# Altium schematic symbol library Passives.SchLib: 279 symbols (part 9 of 10)
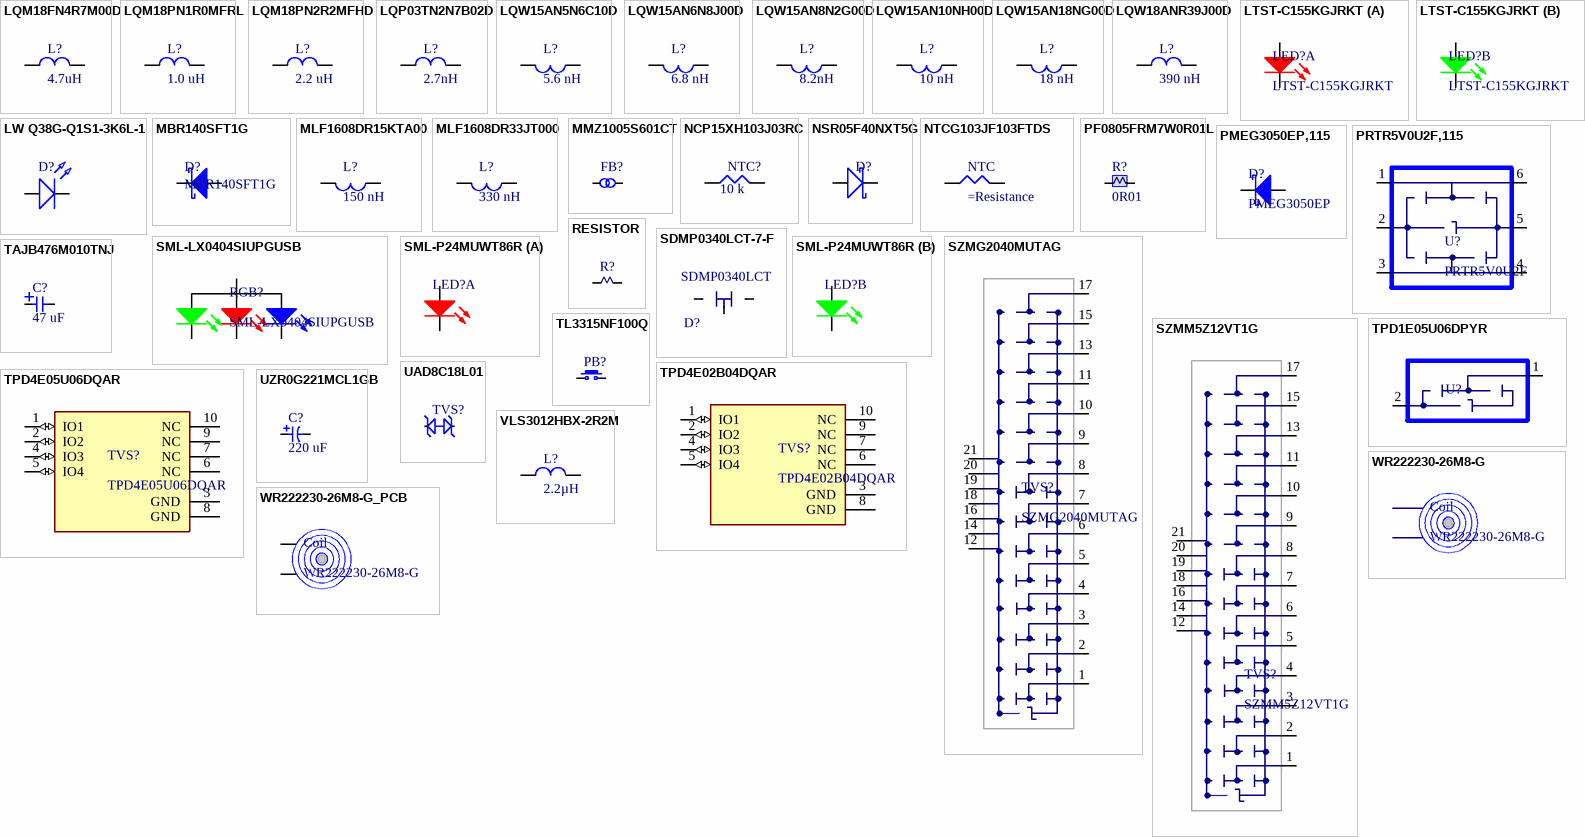
[diagram p15: symbols LQM18FN4R7M00D to WR222230-26M8-G_PCB]

## LQP03TN2N7B02D
designator L?, comment 2.7nH
Inductor RF Chip Thin Film 2.7nH 0.1nH 500MHz 14Q-Factor 500mA 200mOhm DCR 0201 Paper T/R; Manufacturer: Murata; Manufacturer Part Number: LQP03TN2N7B02D; Core Material: Non-Magnetic; Self Resonant Frequency: 6GHz; DC Resistance (DCR): 200mR; Shielding: Unshielded; Q Factor: 14; Tolerance: 3%; Current: 350mA; Supplier: Mouser; Supplier Part Number: 81-LQP03TN2N7B02D; RoHS: Yes; Category: Fixed Inductors; Stock: 28505; Pricing: 1=0.1, 10=0.029, 50=0.029, 100=0.024, 1000=0.02, 10000=0.016 (USD); Mounting Technology: Surface Mount; Case/Package: 0201; Case Code (Metric): 0603; Case Code (Imperial): 0201; Min Operating Temperature: -55°C; Max Operating Temperature: 125°C; Value: 2.7nH; Packaging: Tape and Reel; Current Rating: 500mA; Test Frequency: 500MHz; Series: LQP03TN_02; Package Quantity: 1; Max DC Current: 500mA; Termination: SMD/SMT; DC Current: 500mA; Technology: THIN FILM; RMS Current (Irms): 500mA; ESR: 200mR; Length: 0.024inch; Width: 0.012inch; Height: 0.3mm; Depth: 0.33mm; Height - Seated (Max): 0.013inch; RoHS Compliant: Yes; Military Standard: Not; Reach SVHC Compliant: No; ComponentLink1URL: http://components.arrow.com/part/dataview/49670632S8721729N2606?src-supplier=Arrow+Electronics; ComponentLink1Description: http://components.arrow.com/part/dataview/49670632S8721729N2606?src-supplier=Arrow+Electronics; ComponentLink2URL: http://www.farnell.com/datasheets/1888743.pdf?src-supplier=Farnell; ComponentLink2Description: http://www.farnell.com/datasheets/1888743.pdf?src-supplier=Farnell; ComponentLink3URL: http://www.mouser.com/ds/2/281/c51e-794816.pdf?src-supplier=Mouser; ComponentLink3Description: http://www.mouser.com/ds/2/281/c51e-794816.pdf?src-supplier=Mouser; ComponentLink4URL: https://media.digikey.com/pdf/Data%20Sheets/Murata%20PDFs/LQP03_Series_Br.pdf?src-supplier=Digikey; ComponentLink4Description: https://media.digikey.com/pdf/Data%20Sheets/Murata%20PDFs/LQP03_Series_Br.pdf?src-supplier=Digikey; ComponentLink5URL: https://datasheet.octopart.com/LQP03TN2N7B02D-Murata-datasheet-26765549.pdf?src-supplier=Future+Electronics; ComponentLink5Description: https://datasheet.octopart.com/LQP03TN2N7B02D-Murata-datasheet-26765549.pdf?src-supplier=Future+Electronics; ComponentLink6URL: http://psearch.en.murata.com/inductor/product/LQP03TN2N7B02%23.pdf?src-supplier=Avnet; ComponentLink6Description: http://psearch.en.murata.com/inductor/product/LQP03TN2N7B02%23.pdf?src-supplier=Avnet; ComponentLink7URL: http://search.murata.co.jp/Ceramy/image/img/w_hinm/S0084E.pdf?src-supplier=Digikey; ComponentLink7Description: http://search.murata.co.jp/Ceramy/image/img/w_hinm/S0084E.pdf?src-supplier=Digikey; ComponentLink8URL: http://www.farnell.com/datasheets/1888743.pdf?src-supplier=Newark; ComponentLink8Description: http://www.farnell.com/datasheets/1888743.pdf?src-supplier=Newark; ComponentLink9URL: http://www.farnell.com/datasheets/1888743.pdf?src-supplier=Element14; ComponentLink9Description: http://www.farnell.com/datasheets/1888743.pdf?src-supplier=Element14; ComponentLink10URL: https://datasheet.octopart.com/LQP03TN2N7B02D-Murata-datasheet-141404629.pdf?src-supplier=TME; ComponentLink10Description: https://datasheet.octopart.com/LQP03TN2N7B02D-Murata-datasheet-141404629.pdf?src-supplier=TME; ComponentLink11URL: https://datasheet.octopart.com/LQP03TN2N7B02D-Murata-datasheet-140569419.pdf?src-supplier=Arrow.cn; ComponentLink11Description: https://datasheet.octopart.com/LQP03TN2N7B02D-Murata-datasheet-140569419.pdf?src-supplier=Arrow.cn; Supplier 1: Mouser; Supplier Part Number 1: 81-LQP03TN2N7B02D; Supplier 2: Digikey; Supplier Part Number 2: 490-6725-1-ND; Supplier 3: Digikey; Supplier Part Number 3: 490-6725-6-ND
pins: 1, 2

## LQW15AN5N6C10D
designator L?, comment 5.6 nH
FIXED IND 5.6NH 800MA 51 MOHM; Manufacturer: Murata Electronics North America; Manufacturer Part Number: LQW15AN5N6C10D; Type: Wirewound; Material - Core: Non-Magnetic; Tolerance: ±0.2nH; Shielding: Unshielded; DC Resistance (DCR): 51 mOhm Max; Q @ Freq: 30 @ 250MHz; Frequency - Self Resonant: 8GHz; Frequency - Test: 100MHz; Supplier 1: Digi-Key; Supplier Part Number 1: 490-6833-6-ND; RoHS: RoHS Compliant; Category: Inductors, Coils, Chokes; Stock 1: 49027; Pricing 1: 1=0.2, 10=0.18, 25=0.162, 50=0.1404, 100=0.126, 250=0.117, 500=0.108, 750=0.1026, 1000=0.0936 (USD); Packaging: Digi-Reel®; Part Status: Active; Inductance: 5.6nH; Current Rating: 800mA; Current - Saturation: -; Ratings: -; Operating Temperature: -55°C ~ 125°C; Mounting Type: Surface Mount; Package / Case: 0402 (1005 Metric); Supplier Device Package: 0402 (1005 Metric); Size / Dimension: 0.039" L x 0.020" W (1.00mm x 0.50mm); Height - Seated (Max): 0.024" (0.60mm); ComponentLink1URL: http://search.murata.co.jp/Ceramy/image/img/PDF/ENG/L0075S0080LQW15A_10.pdf; ComponentLink1Description: http://search.murata.co.jp/Ceramy/image/img/PDF/ENG/L0075S0080LQW15A_10.pdf; Value: 5.6 nH
footprint INDC1005X06N (Chip Inductor, 2-Leads, Body 1.00x0.50mm, IPC Medium Density)
pins: 1, 2

## LQW15AN6N8J00D
designator L?, comment 6.8 nH
FIXED IND 6.8NH 700MA 90 MOHM; Manufacturer: Murata Electronics North America; Manufacturer Part Number: LQW15AN6N8J00D; Type: Wirewound; Material - Core: Non-Magnetic; Tolerance: ±5%; Shielding: Unshielded; DC Resistance (DCR): 90 mOhm Max; Q @ Freq: 25 @ 250MHz; Frequency - Self Resonant: 6GHz; Supplier 1: Digi-Key; RoHS: RoHS Compliant; Category: Inductors, Coils, Chokes; Stock 1: 164035; Pricing 1: 1=0.17, 10=0.155, 100=0.1035, 500=0.08626, 1000=0.07245, 2500=0.0621 (USD); Packaging: Digi-Reel®; Part Status: Active; Inductance: 6.8nH; Current Rating: 700mA; Current - Saturation: -; Ratings: -; Operating Temperature: -55°C ~ 125°C; Mounting Type: Surface Mount; Package / Case: Nonstandard; Supplier Device Package: 0402 (1005 Metric); Size / Dimension: 0.039" L x 0.020" W (1.00mm x 0.50mm); Height - Seated (Max): 0.024" (0.60mm); ComponentLink1URL: http://search.murata.co.jp/Ceramy/image/img/P02/JELF243A-0050.pdf; ComponentLink1Description: http://search.murata.co.jp/Ceramy/image/img/P02/JELF243A-0050.pdf; Supplier Part Number 1: 490-1142-6-ND; Value: 6.8 nH
footprint INDC1005X06N (Chip Inductor, 2-Leads, Body 1.00x0.50mm, IPC Medium Density)
pins: 1, 2

## LQW15AN8N2G00D
designator L?, comment 8.2nH
Inductor RF Chip Wirewound 8.2nH 2% 100MHz 25Q-Factor 540mA 140mOhm DCR 0402 Paper T/R; Manufacturer: Murata; Manufacturer Part Number: LQW15AN8N2G00D; Core Material: Non-Magnetic,Ferrite; Shielding: Unshielded; DC Resistance (DCR): 140mR; Self Resonant Frequency: 5.5GHz; Q Factor: 25; Supplier: Future Electronics; Supplier Part Number: 7750706; RoHS: Yes; Category: Fixed Inductors; Stock: 160000; Pricing: 10000=0.0434, 20000=0.0424, 30000=0.0418, 40000=0.0414, 50000=0.04 (USD); Mounting Technology: Surface Mount; Case/Package: 0402; Pins: 2; Case Code (Imperial): 0402; Case Code (Metric): 1005; Weight: 2.8E-05oz; Min Operating Temperature: -55°C; Max Operating Temperature: 125°C; Tolerance: 2%; Value: 8.2nH; Test Frequency: 100MHz; Series: LQW15A_00; Packaging: Tape and Reel; Package Quantity: 1; Max DC Current: 540mA; Termination: SMD/SMT; Inductance Tolerance: 2%; DC Current: 540mA; ESR: 140mR; Max Current Rating: 540mA; RMS Current (Irms): 540mA; Length: 1mm; Width: 0.5mm; Height: 0.5mm; Depth: 0.7mm; Radiation Hardening: No; RoHS Compliant: Yes; Reach SVHC Compliant: No; Military Standard: Not; Lead Free: Lead Free; ComponentLink1URL: https://datasheet.ciiva.com/11799/0900766b8090d800-11799384.pdf?src-supplier=Rs; ComponentLink1Description: https://datasheet.ciiva.com/11799/0900766b8090d800-11799384.pdf?src-supplier=Rs; ComponentLink2URL: https://datasheet.ciiva.com/16455/l0075s0080lqw15a-00-16455832.pdf?src-supplier=Future+Electronics; ComponentLink2Description: https://datasheet.ciiva.com/16455/l0075s0080lqw15a-00-16455832.pdf?src-supplier=Future+Electronics; Supplier 1: Mouser; Supplier Part Number 1: 81-LQW15AN8N2G00D; Supplier 2: Digikey; Supplier Part Number 2: 490-6849-6-ND
footprint INDC1005X06N (Chip Inductor, 2-Leads, Body 1.00x0.50mm, IPC Medium Density)
pins: 1, 2

## LQW15AN10NH00D
designator L?, comment 10 nH
FIXED IND 10NH 500MA 170 MOHM; Manufacturer: Murata Electronics North America; Manufacturer Part Number: LQW15AN10NH00D; Type: Wirewound; Material - Core: Non-Magnetic; Tolerance: ±3%; Shielding: Unshielded; DC Resistance (DCR): 170 mOhm Max; Q @ Freq: 25 @ 250MHz; Frequency - Self Resonant: 5.5GHz; Supplier 1: Digi-Key; RoHS: RoHS Compliant; Category: Inductors, Coils, Chokes; Stock 1: 9843; Pricing 1: 1=0.21, 10=0.185, 100=0.1233, 500=0.10272, 1000=0.08629, 2500=0.07396 (USD); Packaging: Digi-Reel®; Part Status: Active; Inductance: 10nH; Current Rating: 500mA; Current - Saturation: -; Ratings: -; Operating Temperature: -55°C ~ 125°C; Mounting Type: Surface Mount; Package / Case: Nonstandard; Supplier Device Package: 0402 (1005 Metric); Size / Dimension: 0.039" L x 0.020" W (1.00mm x 0.50mm); Height - Seated (Max): 0.024" (0.60mm); ComponentLink1URL: http://search.murata.co.jp/Ceramy/image/img/P02/JELF243A-0050.pdf; ComponentLink1Description: http://search.murata.co.jp/Ceramy/image/img/P02/JELF243A-0050.pdf; Supplier Part Number 1: 490-6763-6-ND; Value: 10 nH
footprint INDC1005X06N (Chip Inductor, 2-Leads, Body 1.00x0.50mm, IPC Medium Density)
pins: 1, 2

## LQW15AN18NG00D
designator L?, comment 18 nH
FIXED IND 18NH 370MA 270 MOHM; Manufacturer: Murata Electronics North America; Manufacturer Part Number: LQW15AN18NG00D; Type: Wirewound; Material - Core: Non-Magnetic; Tolerance: ±2%; Shielding: Unshielded; DC Resistance (DCR): 270 mOhm Max; Q @ Freq: 25 @ 250MHz; Frequency - Self Resonant: 4.5GHz; Supplier 1: Digi-Key; RoHS: RoHS Compliant; Category: Inductors, Coils, Chokes; Stock 1: 49538; Pricing 1: 1=0.19, 10=0.171, 100=0.1139, 500=0.09488, 1000=0.0797, 2500=0.06831 (USD); Packaging: Digi-Reel®; Part Status: Active; Inductance: 18nH; Current Rating: 370mA; Current - Saturation: -; Ratings: -; Operating Temperature: -55°C ~ 125°C; Mounting Type: Surface Mount; Package / Case: Nonstandard; Supplier Device Package: 0402 (1005 Metric); Size / Dimension: 0.039" L x 0.020" W (1.00mm x 0.50mm); Height - Seated (Max): 0.024" (0.60mm); ComponentLink1URL: http://search.murata.co.jp/Ceramy/image/img/P02/JELF243A-0050.pdf; ComponentLink1Description: http://search.murata.co.jp/Ceramy/image/img/P02/JELF243A-0050.pdf; Supplier Part Number 1: 490-6776-6-ND; Value: 18 nH
footprint INDC1005X06N (Chip Inductor, 2-Leads, Body 1.00x0.50mm, IPC Medium Density)
pins: 1, 2

## LQW18ANR39J00D
designator L?, comment 390 nH
FIXED IND 390NH 80MA 6.2 OHM SMD; Manufacturer: Murata Electronics North America; Manufacturer Part Number: LQW18ANR39J00D; Type: Wirewound; Material - Core: Non-Magnetic; Tolerance: ±5%; Shielding: Unshielded; DC Resistance (DCR): 6.2 Ohm Max; Q @ Freq: 30 @ 100MHz; Frequency - Self Resonant: 800MHz; Frequency - Test: 100MHz; Supplier 1: Digi-Key; Supplier Part Number 1: 490-1183-6-ND; RoHS: RoHS Compliant; Category: Inductors, Coils, Chokes; Stock 1: 11053; Pricing 1: 1=0.15, 10=0.135, 25=0.1216, 50=0.1052, 100=0.0944, 250=0.08768, 500=0.0809, 750=0.07687, 1000=0.07011 (EUR); Packaging: Digi-Reel®; Part Status: Active; Inductance: 390nH; Current Rating: 80mA; Current - Saturation: -; Ratings: -; Operating Temperature: -55°C ~ 125°C; Mounting Type: Surface Mount; Package / Case: 0603 (1608 Metric); Size / Dimension: 0.063" L x 0.031" W (1.60mm x 0.80mm); Height - Seated (Max): 0.039" (1.00mm); ComponentLink1URL: http://search.murata.co.jp/Ceramy/image/img/PDF/ENG/L0075S0080LQW18A_00.pdf; ComponentLink1Description: http://search.murata.co.jp/Ceramy/image/img/PDF/ENG/L0075S0080LQW18A_00.pdf; Value: 390 nH
footprint INDC1608X09N (Chip Inductor, 2-Leads, Body 1.60x0.80mm, IPC Medium Density)
signal-integrity model Model Name (Model Description)
pins: 1, 2

## LTST-C155KGJRKT
designator LED?
LED GREEN/RED CLEAR CHIP SMD; Manufacturer: Vishay Lite-On; Color: Green,Red; Lens Color: Colorless; Reverse Voltage: 5V; Wavelength: 639nm; Number of LEDs: 2; Forward Current: 30mA; Forward Voltage: 2V; Power Rating: 75mW; Luminous Intensity: 45mcd; Viewing Angle: 130°; Lens Style: Diffused,Colorless,Rectangular,Clear; Dominant Wavelength: 631nm; Test Current: 20mA; Supplier 1: Digi-Key; Supplier Part Number 1: 160-1409-1-ND; Manufacturer Part Number: LTST-C155KGJRKT; RoHS: Yes; Category: LEDs; Stock 1: 123598; Pricing 1: 1=0.43000, 10=0.28000, 100=0.18670, 500=0.12912, 1000=0.10760 (USD); Mount: Surface Mount; Case/Package: 1210; Number of Pins: 4; Case Code (Imperial): 1210; Case Code (Metric): 3225; Min Operating Temperature: -55°C; Max Operating Temperature: 85°C; Packaging: Tape and Reel; Package Quantity: 1; Illumination Color: Green,Red; Lens Transparency: Clear; Number of Elements: 2; Power Dissipation: 75mW; Max Power Dissipation: 75mW; Length: 2.7mm; Width: 2.7mm; Height: 1.1mm; Depth: 3.2mm; Radiation Hardening: No; Lead Free: Lead Free; ComponentLink1URL: https://datasheet.ciiva.com/11774/0900766b80dc0273-11774195.pdf?src-supplier=RSComponents; ComponentLink1Description: https://datasheet.ciiva.com/11774/0900766b80dc0273-11774195.pdf?src-supplier=RSComponents; ComponentLink2URL: https://datasheet.ciiva.com/15117/getdatasheetpartid-103641-15117440.pdf?src-supplier=Verical; ComponentLink2Description: https://datasheet.ciiva.com/15117/getdatasheetpartid-103641-15117440.pdf?src-supplier=Verical; ComponentLink3URL: https://datasheet.ciiva.com/16366/lite-on20ltst-c155kgjrkt-16366147.pdf?src-supplier=Future+Electronics; ComponentLink3Description: https://datasheet.ciiva.com/16366/lite-on20ltst-c155kgjrkt-16366147.pdf?src-supplier=Future+Electronics; ComponentLink4URL: https://datasheet.ciiva.com/27051/1260277-27051786.pdf?src-supplier=Jameco; ComponentLink4Description: https://datasheet.ciiva.com/27051/1260277-27051786.pdf?src-supplier=Jameco; ComponentLink5URL: https://datasheet.ciiva.com/2110/s-110-ltst-c155kgjrkt-2110800.pdf?src-supplier=Digi-Key; ComponentLink5Description: https://datasheet.ciiva.com/2110/s-110-ltst-c155kgjrkt-2110800.pdf?src-supplier=Digi-Key; ComponentLink6URL: https://datasheet.ciiva.com/2110/s-110-ltst-c155kgjrkt-2110801.pdf?src-supplier=Digi-Key; ComponentLink6Description: https://datasheet.ciiva.com/2110/s-110-ltst-c155kgjrkt-2110801.pdf?src-supplier=Digi-Key
footprint LTST-C155KGJRKT
part A pins: 2 A, 4 K
part B pins: 1 A, 3 K

## LW Q38G-Q1S1-3K6L-1
designator D?  (value not drawn)
LED Uni-Color Red 2-Pin Chip 0402(1006Metric) T/R; Manufacturer: OSRAM Opto Semiconductors Inc; Color: White, Cool; Wavelength - Dominant: 8200K; Millicandela Rating: 147.5mcd; Voltage - Forward (Vf) Typ: 2.85V; Current - Test: 5mA; Viewing Angle: 150°, 130°; Lens Type: Diffused, Tinted; Lens Style/Size: Rectangle with Flat Top, 1.1mm x 0.8mm; Value: White, Cool; Manufacturer Part Number: LW Q38G-Q1S1-3K6L-1; Category: Optoelectronics; Family: LED Indication - Discrete; Series: CHIPLED; Package/Case: 0603 (1608 Metric); Size / Dimension: 1.60mm L x 0.80mm W; Height: 0.30mm; Mounting Type: Surface Mount; Supplier 1: Digi-Key; Supplier Part Number 1: 475-2832-1-ND; Supplier: Arrow Electronics; Supplier Part Number: 5988A10107F; RoHS: Yes; Stock: 6786; Pricing: 1=0.3494, 10=0.2314, 25=0.2169, 100=0.109, 250=0.1079, 500=0.1068, 1000=0.0777, 3000=0.0703, 6000=0.0618 (USD)
footprint DIOM1608X04N (Molded Diode, 2-Leads, Body 1.60x0.80mm, IPC Medium Density)
signal-integrity model Model Name (Model Description)
pins: 1 K, 2 A

## MBR140SFT1G
designator D?
DIODE SCHOTTKY 40V 1A SOD123L; Manufacturer: ON Semiconductor; Voltage - Forward (Vf) (Max) @ If: 550mV @ 1A; Speed: Fast Recovery =< 500ns, > 200mA (Io); Current - Reverse Leakage @ Vr: 500µA @ 40V; Supplier 1: Digi-Key; Manufacturer Part Number: MBR140SFT1G; RoHS: RoHS Compliant; Category: Discrete Semiconductor Products; Stock 1: 29983; Pricing 1: 1=0.3, 10=0.23, 100=0.1431, 500=0.09782, 1000=0.07519 (GBP); Packaging: Digi-Reel®; Part Status: Active; Diode Type: Schottky; Voltage - DC Reverse (Vr) (Max): 40V; Current - Average Rectified (Io): 1A; Reverse Recovery Time (trr): -; Capacitance @ Vr, F: -; Mounting Type: Surface Mount; Package / Case: SOD-123F; Supplier Device Package: SOD-123L; Operating Temperature - Junction: -55°C ~ 125°C; ComponentLink1URL: http://www.onsemi.com/pub_link/Collateral/MBR140SFT1-D.PDF; ComponentLink1Description: http://www.onsemi.com/pub_link/Collateral/MBR140SFT1-D.PDF; Supplier Part Number 1: MBR140SFT1GOSDKR-ND
footprint SODFL360X110-2N (SODFL, 2-Leads, Body 1.65x3.60mm, IPC Medium Density)
signal-integrity model Model Name (Model Description)
pins: 1 cathode, 2 ANODE

## MLF1608DR15KTA00
designator L?, comment 150 nH
FIXED IND 150NH 200MA 450 MOHM; Manufacturer: TDK Corporation; Manufacturer Part Number: MLF1608DR15KTA00; Type: Multilayer; Material - Core: Ferrite; Tolerance: ±10%; Shielding: Shielded; DC Resistance (DCR): 450 mOhm Max; Q @ Freq: 15 @ 25MHz; Supplier 1: Digi-Key; RoHS: RoHS Compliant; Category: Inductors, Coils, Chokes; Stock: 26909; Pricing: 1=0.2, 10=0.176, 100=0.1173, 500=0.09776, 1000=0.08211 (USD); Packaging: Digi-Reel®; Part Status: Active; Ratings: -; Operating Temperature: -40°C ~ 85°C; Mounting Type: Surface Mount; Package / Case: 0603 (1608 Metric); Supplier Device Package: 0603 (1608 Metric); Size / Dimension: 0.063" L x 0.031" W (1.60mm x 0.80mm); Height - Seated (Max): 0.037" (0.95mm); ComponentLink1URL: https://product.tdk.com/info/en/catalog/datasheets/inductor_commercial_standard_mlf1608_en.pdf; ComponentLink1Description: https://product.tdk.com/info/en/catalog/datasheets/inductor_commercial_standard_mlf1608_en.pdf; Supplier Part Number 1: 445-1005-6-ND; Value: 150 nH
footprint INDC1608X09N (Chip Inductor, 2-Leads, Body 1.60x0.80mm, IPC Medium Density)
pins: 1, 2

## MLF1608DR33JT000
designator L?, comment 330 nH
FIXED IND 330NH 100MA 750 MOHM; Manufacturer: TDK Corporation; Manufacturer Part Number: MLF1608DR33JT000; Type: Multilayer; Material - Core: Ferrite; Tolerance: ±5%; Shielding: Shielded; DC Resistance (DCR): 750 mOhm Max; Q @ Freq: 15 @ 25MHz; Supplier 1: Digi-Key; RoHS: RoHS Compliant; Category: Inductors, Coils, Chokes; Stock: 4000; Pricing: 1=0.24, 10=0.217, 100=0.1449, 500=0.12076, 1000=0.10143 (USD); Packaging: Digi-Reel®; Part Status: Active; Ratings: -; Operating Temperature: -40°C ~ 85°C; Mounting Type: Surface Mount; Package / Case: 0603 (1608 Metric); Supplier Device Package: 0603 (1608 Metric); Size / Dimension: 0.063" L x 0.031" W (1.60mm x 0.80mm); Height - Seated (Max): 0.037" (0.95mm); ComponentLink1URL: https://product.tdk.com/info/en/catalog/datasheets/inductor_commercial_standard_mlf1608_en.pdf; ComponentLink1Description: https://product.tdk.com/info/en/catalog/datasheets/inductor_commercial_standard_mlf1608_en.pdf; Supplier Part Number 1: 445-175203-6-ND; Value: 330 nH
footprint INDC1608X10N (Chip Inductor, 2-Leads, Body 1.60x0.80mm, IPC Medium Density)
pins: 1, 2

## MMZ1005S601CT
designator FB?  (value not drawn)
Ferrite Beads Multi-Layer 600Ohm 25% 100MHz 300mA 600mOhm DCR 0402 T/R; Manufacturer: TDK; DC Resistance (DCR): 600mR; Impedance: 600R; Supplier 1: Arrow Electronics; Supplier Part Number 1: MMZ1005S601CT; Manufacturer Part Number: MMZ1005S601CT; RoHS: Yes; Category: Inductors; Case/Package: 0402; Min Operating Temperature: -55°C; Max Operating Temperature: 125°C; Tolerance: 25%; Termination: SMD/SMT; ComponentLink1URL: http://www.mouser.com/Search/include/RoHSCompliant.aspx?qs=NDp0%252bgdERqX73iiQIGrRRQ%3d%3d&src-supplier=Mouser; ComponentLink1Description: http://www.mouser.com/Search/include/RoHSCompliant.aspx?qs=NDp0%252bgdERqX73iiQIGrRRQ%3d%3d&src-supplier=Mouser; ComponentLink2URL: http://components.arrow.com/part/dataview/0323_01994350?src-supplier=Arrow+Europe; ComponentLink2Description: http://components.arrow.com/part/dataview/0323_01994350?src-supplier=Arrow+Europe
footprint INDC1005X06N (Chip Inductor, 2-Leads, Body 1.00x0.50mm, IPC Medium Density)
pins: 1, 2

## NCP15XH103J03RC
designator NTC?  value 10 k  (hidden comment: NCP15XH103J03RC)
THERMISTOR 10K OHM NTC 0402 SMD; Manufacturer: Murata Electronics North America; Resistance Tolerance: ±5%; B Value Tolerance: ±3%; B25/50: 3380K; B25/85: 3434K; B25/100: 3455K; Power - Max: 100mW; Supplier 1: Digi-Key; Supplier Part Number 1: 490-2414-6-ND; Manufacturer Part Number: NCP15XH103J03RC; RoHS: RoHS Compliant; Category: Sensors, Transducers; Stock 1: 105051; Pricing 1: 1=0.1, 10=0.08, 25=0.0732, 50=0.0584, 100=0.0501, 250=0.04596, 500=0.04386, 1000=0.0376, 2500=0.0355 (EUR); Packaging: Digi-Reel®; Resistance in Ohms @ 25°C: 10k; B0/50: -; B25/75: -; Operating Temperature: -40°C ~ 125°C; Length - Lead Wire: -; Mounting Type: Surface Mount; Package / Case: 0402 (1005 Metric); ComponentLink1URL: http://www.murata.com/products/catalog/pdf/r44e.pdf; ComponentLink1Description: http://www.murata.com/products/catalog/pdf/r44e.pdf
footprint RESC1005X04N (Chip Resistor, 2-Leads, Body 1.00x0.50mm, IPC Medium Density)
pins: 1, 2

## NSR05F40NXT5G
designator D?  (value not drawn)
500 mA, 40 V, Schottky Barrier Diode DSN2 0402 Schottky Diode 40V 0.5 A; Manufacturer: onsemi; Manufacturer Lifecycle Status: ACTIVE; Average Rectified Current: 500mA; Value: 70pF; Element Configuration: Single; Forward Voltage: 460mV; Max Forward Surge Current (Ifsm): 10A; Max Junction Temperature (Tj): 150°C; Max Power Dissipation: 1.3W; Max Reverse Leakage Current: 15µA; Number of Elements: 1; Peak Reverse Current: 75µA; Supplier: Future Electronics; Supplier Part Number: 1209589; Manufacturer Part Number: NSR05F40NXT5G; RoHS: Compliant; Category: Schottky Diodes; Stock: 500000; Pricing: 5000=0.117, 10000=0.116, 15000=0.114 (USD); Case/Package: 0402; Case Code (Metric): 0402; China RoHS: Compliant; Contact Plating: Tin; Forward Current: 500mA; Height: 310µm; Lead Free: Lead Free; Lifecycle Status: Production; Max Operating Temperature: 150°C; Max Output current: 500mA; Max Repetitive Reverse Voltage (Vrrm): 40V; Max Reverse Voltage (DC): 40V; Max Surge Current: 10A; Min Breakdown Voltage: 40V; Min Operating Temperature: -40°C; Pins: 2; Number of Terminals: 2; Packaging: Tape and Reel; Peak Non-Repetitive Surge Current: 10A; Radiation Hardening: No; REACH SVHC: Yes; Reverse Standoff Voltage: 40V; Reverse Voltage: 40V; Schedule B: 8541100070, 8541100070|8541100070|8541100070|8541100070|8541100070; ComponentLink1URL: https://datasheet.octopart.com:443/NSR05F40NXT5G-ON-Semiconductor-datasheet-94104276.pdf?src-supplier=JRH+Electronics; ComponentLink1Description: https://datasheet.octopart.com:443/NSR05F40NXT5G-ON-Semiconductor-datasheet-94104276.pdf?src-supplier=JRH+Electronics; ComponentLink2URL: https://datasheet.octopart.com:443/NSR05F40NXT5G-onsemi-datasheet-180967270.pdf?src-supplier=IHS; ComponentLink2Description: https://datasheet.octopart.com:443/NSR05F40NXT5G-onsemi-datasheet-180967270.pdf?src-supplier=IHS; ComponentLink3URL: https://sigma.octopart.com:443/142493867/technical_drawing/ON-Semiconductor-NSR05F40NXT5G.pdf?src-supplier=Upverter; ComponentLink3Description: https://sigma.octopart.com:443/142493867/technical_drawing/ON-Semiconductor-NSR05F40NXT5G.pdf?src-supplier=Upverter; ComponentLink4URL: https://datasheet.octopart.com:443/NSR05F40NXT5G-ON-Semiconductor-datasheet-37177440.pdf?src-supplier=Future+Electronics; ComponentLink4Description: https://datasheet.octopart.com:443/NSR05F40NXT5G-ON-Semiconductor-datasheet-37177440.pdf?src-supplier=Future+Electronics; ComponentLink5URL: https://datasheet.octopart.com:443/NSR05F40NXT5G-ON-Semiconductor-datasheet-11745561.pdf?src-supplier=element14+APAC; ComponentLink5Description: https://datasheet.octopart.com:443/NSR05F40NXT5G-ON-Semiconductor-datasheet-11745561.pdf?src-supplier=element14+APAC; ComponentLink6URL: https://datasheet.octopart.com:443/NSR05F40NXT5G-onsemi-datasheet-157596273.pdf?src-supplier=TME; ComponentLink6Description: https://datasheet.octopart.com:443/NSR05F40NXT5G-onsemi-datasheet-157596273.pdf?src-supplier=TME; ComponentLink7URL: http://sigma.octopart.com:80/150628044/rohs_statement/ON-Semiconductor-NSR05F40NXT5G.pdf?src-supplier=Compliance+Statements; ComponentLink7Description: http://sigma.octopart.com:80/150628044/rohs_statement/ON-Semiconductor-NSR05F40NXT5G.pdf?src-supplier=Compliance+Statements; ComponentLink8URL: http://sigma.octopart.com:80/reach_statement/ON-Semiconductor-company-79.pdf?src-supplier=Compliance+Statements; ComponentLink8Description: http://sigma.octopart.com:80/reach_statement/ON-Semiconductor-company-79.pdf?src-supplier=Compliance+Statements; ComponentLink9URL: https://octopart.com:443/opatz8j6/c1?t=Uq4oP0XYW20rA7GHSBTJXxRF7eBdr4oxj12W_Ow5ZQAQn3aEDntsR0v86sH67Y1VYL5Qd9r7fRzpz2SYouYyA9JWBfabzTk58wY7bKwJhLgZjmWKK4ZrC-dHOp6ai5rBi6r7DXU3w6lacVIfvaDn2nRF9UvHTuHHr9E3jzJFHL2pmpzCgrd95MfAU6WRjEqPrH4FXmi5Pb5vezZnW2ixtA-n7Il4BdWyE0xwS-HrM7RWY8bZfc2VlpjgXKB69n0rSfU3KsfeR3bp8yru8gdBl9cDCMeIg9t034yDtaHrjWpzFh7BGxEtGBfDY3iFXfrKSjB-Z7YETzzcCTzQSl0QWI7OlnwEF9Yev97QIn5lCD4&src-supplier=Compliance+Statements; ComponentLink9Description: https://octopart.com:443/opatz8j6/c1?t=Uq4oP0XYW20rA7GHSBTJXxRF7eBdr4oxj12W_Ow5ZQAQn3aEDntsR0v86sH67Y1VYL5Qd9r7fRzpz2SYouYyA9JWBfabzTk58wY7bKwJhLgZjmWKK4ZrC-dHOp6ai5rBi6r7DXU3w6lacVIfvaDn2nRF9UvHTuHHr9E3jzJFHL2pmpzCgrd95MfAU6WRjEqPrH4FXmi5Pb5vezZnW2ixtA-n7Il4BdWyE0xwS-HrM7RWY8bZfc2VlpjgXKB69n0rSfU3KsfeR3bp8yru8gdBl9cDCMeIg9t034yDtaHrjWpzFh7BGxEtGBfDY3iFXfrKSjB-Z7YETzzcCTzQSl0QWI7OlnwEF9Yev97QIn5lCD4&src-supplier=Compliance+Statements; ComponentLink10URL: https://octopart.com:443/opatz8j6/c1?t=tOMwwjJdKrMCwwp9xDXBgZ8DJoU_ElaTzUGOgd_zZExvTTC0p2NYJW3NlBnhz5vf_HXY9LJ17f1o9pBU_tcUnujW_Yxlprmd2-sSoR96ke0Q8YbgF19hBsAJQWJxEiKYx35u9p3RsTvb0HgNXHPMjTb1dZ8WyWhX8zQvkz3pewxX8C7MxnfqoNUS5V31fEqnYepoV_6IM_4K9PSSvd1Oj8BtQ1Cn5zO6iYOB9Eq_KnshKwZS0MVEEWCWsRMCFOTvi-Nc5U63y5iUW2btnkkl7e38_9u1deLWq8gsS2jWLNyNz5NsbtUkrAQjDqhF1ZfhZmjirHTwNQnQ7j0N6RbRGNLHDdWnOo0xcrVv93vy-P5A&src-supplier=Compliance+Statements; ComponentLink10Description: https://octopart.com:443/opatz8j6/c1?t=tOMwwjJdKrMCwwp9xDXBgZ8DJoU_ElaTzUGOgd_zZExvTTC0p2NYJW3NlBnhz5vf_HXY9LJ17f1o9pBU_tcUnujW_Yxlprmd2-sSoR96ke0Q8YbgF19hBsAJQWJxEiKYx35u9p3RsTvb0HgNXHPMjTb1dZ8WyWhX8zQvkz3pewxX8C7MxnfqoNUS5V31fEqnYepoV_6IM_4K9PSSvd1Oj8BtQ1Cn5zO6iYOB9Eq_KnshKwZS0MVEEWCWsRMCFOTvi-Nc5U63y5iUW2btnkkl7e38_9u1deLWq8gsS2jWLNyNz5NsbtUkrAQjDqhF1ZfhZmjirHTwNQnQ7j0N6RbRGNLHDdWnOo0xcrVv93vy-P5A&src-supplier=Compliance+Statements
footprint ONSC-DSN-2-152AC-01_V (DSN, 2-Leads, Body 1x0.6mm)
pins: 1 Cathode, 2 Anode

## NTCG103JF103FTDS
designator NTC
Thermistor NTC 10K Ohm 1% 2-Pin 0402 Surface Mount Solder Pad 3435K T/R Automotive; Manufacturer: TDK; Manufacturer Part Number: NTCG103JF103FTDS; Supplier 1: Digi-Key; Supplier Part Number 1: 445-174507-1-ND; RoHS: Yes; Category: Thermistors; Stock 1: 16404; Pricing 1: 1=0.12000, 5=0.11200, 10=0.09900, 25=0.09120, 50=0.07280, 100=0.06240, 500=0.05460, 1000=0.04680, 5000=0.04160 (USD); Mount: Surface Mount; Case/Package: 0402; Case Code (Metric): 1005; Case Code (Imperial): 0402; Min Operating Temperature: -40°C; Max Operating Temperature: 125°C; Packaging: Tape and Reel; Tolerance: 1%; ComponentLink1URL: https://media.digikey.com/pdf/Data%20Sheets/TDK%20PDFs/NTCG103JF103FTDS_Spec.pdf?src-supplier=Digi-Key; ComponentLink1Description: https://media.digikey.com/pdf/Data%20Sheets/TDK%20PDFs/NTCG103JF103FTDS_Spec.pdf?src-supplier=Digi-Key
footprint RESC1005X04N (Chip Resistor, 2-Leads, Body 1.00x0.50mm, IPC Medium Density)
pins: 1, 2

## PF0805FRM7W0R01L
designator R?, comment 0R01
RES SMD 0.01 OHM 1% 1/4W 0805; Manufacturer: Yageo; Manufacturer Part Number: PF0805FRM7W0R01L; Resistance: 10mR; Max Power Dissipation: 250mW; Temperature Coefficient: 75ppm/°C; Supplier 1: Digi-Key; Supplier Part Number 1: 311-0.01NUCT-ND; Stock 1: 7990; Pricing 1: 1=0.78, 10=0.576, 25=0.468, 50=0.4068, 100=0.3356, 250=0.29152, 500=0.2373, 1000=0.18821 (USD); Case/Package: 0805; Case Code (Metric): 2012; Case Code (Imperial): 0805; Min Operating Temperature: -55°C; Max Operating Temperature: 155°C; Package Quantity: 1; Tolerance: 1%; Packaging: Tape and Reel; Composition: Thick Film; Number of Terminations: 2; Features: Moisture Resistant; Length: 0.08inch; Height: 0.018inch; Width: 0.05inch; ComponentLink1URL: http://www.yageo.com/documents/recent/PYu-PRPFPH_521_RoHS_L_0.pdf; ComponentLink1Description: http://www.yageo.com/documents/recent/PYu-PRPFPH_521_RoHS_L_0.pdf; ComponentLink2URL: http://www.yageo.com/exep/pages/download/literatures/R-chip_current%20sensor_20140512.pdf; ComponentLink2Description: http://www.yageo.com/exep/pages/download/literatures/R-chip_current%20sensor_20140512.pdf; Value: 0R01
footprint RESC2013X06N (Chip Resistor, 2-Leads, Body 2.03x1.27mm, IPC Medium Density)
pins: 1, 2

## PMEG3050EP,115
designator D?, comment PMEG3050EP
DIODE SCHOTTKY 30V 5A SOD128; Manufacturer: NXP Semiconductors; Manufacturer Part Number: PMEG3050EP,115; Voltage - Forward (Vf) (Max) @ If: 360mV @ 5A; Speed: Fast Recovery =< 500ns, > 200mA (Io); Current - Reverse Leakage @ Vr: 8mA @ 30V; Capacitance @ Vr, F: 800pF @ 1V, 1MHz; Supplier 1: Digi-Key; RoHS: RoHS Compliant; Category: Discrete Semiconductor Products; Stock 1: 18244; Pricing 1: 1=0.36, 10=0.31, 100=0.2315, 500=0.18184, 1000=0.14018 (GBP); Packaging: Digi-Reel®; Part Status: Active; Diode Type: Schottky; Voltage - DC Reverse (Vr) (Max): 30V; Current - Average Rectified (Io): 5A; Reverse Recovery Time (trr): -; Mounting Type: Surface Mount; Package / Case: SOD-128; Supplier Device Package: SOD-128; Operating Temperature - Junction: 150°C (Max); ComponentLink1URL: http://www.nxp.com/documents/data_sheet/PMEG3050EP.pdf; ComponentLink1Description: http://www.nxp.com/documents/data_sheet/PMEG3050EP.pdf; Supplier Part Number 1: 568-6753-6-ND
footprint SODFL470X110-2N (SODFL, 2-Leads, Body 2.50x4.70mm, IPC Medium Density)
signal-integrity model Model Name (Model Description)
pins: 1 cathode, 2 ANODE

## PRTR5V0U2F,115
designator U?, comment PRTR5V0U2F
TVS DIODE 5.5VWM SOT886; Manufacturer: NXP Semiconductors; Manufacturer Part Number: PRTR5V0U2F,115; Bidirectional Channels: 2; Voltage - Reverse Standoff (Typ): 5.5V (Max); Voltage - Breakdown (Min): 6V; Power Line Protection: Yes; Capacitance @ Frequency: 1pF @ 1MHz; Supplier 1: Digi-Key; RoHS: RoHS Compliant; Category: Circuit Protection; Stock 1: 51030; Pricing 1: 1=0.38, 10=0.325, 100=0.2427, 500=0.19058, 1000=0.14693 (GBP); Packaging: Digi-Reel®; Part Status: Active; Type: Steering (Rail to Rail); Unidirectional Channels: -; Voltage - Clamping (Max) @ Ipp: -; Current - Peak Pulse (10/1000µs): -; Power - Peak Pulse: -; Applications: Automotive; Operating Temperature: -40°C ~ 85°C (TA); Mounting Type: Surface Mount; Package / Case: 6-XFDFN; Supplier Device Package: 6-XSON, SOT886 (1.45x1); ComponentLink1URL: http://www.nxp.com/documents/data_sheet/PRTR5V0U2F_PRTR5V0U2K.pdf; ComponentLink1Description: http://www.nxp.com/documents/data_sheet/PRTR5V0U2F_PRTR5V0U2K.pdf; Supplier Part Number 1: 568-4677-6-ND
footprint SON50P100X50-6N (SON, 6-Leads, Body 1.45x1.00mm, Pitch 0.50mm, IPC Medium Density)
pins: 1, 2, 3, 4, 5, 6

## RESISTOR
designator R?  (value not drawn)
footprint RESC0603X03N (Chip Resistor, 2-Leads, Body 0.60x0.30mm, IPC Medium Density)
footprint RESC1005X04N (Chip Resistor, 2-Leads, Body 1.00x0.50mm, IPC Medium Density)
footprint RESC2013X06N (Chip Resistor, 2-Leads, Body 2.03x1.27mm, IPC Medium Density)
footprint RESC3216X07N (Chip Resistor, 2-Leads, Body 3.20x1.60mm, IPC Medium Density)
footprint RESC1508X05N (Chip Resistor, 2-Leads, Body 1.53x0.85mm, IPC Medium Density)
pins: 1, 2

## SDMP0340LCT-7-F
designator D?, comment SDMP0340LCT
DIODE SCHOTTKY 40V 30MA SOT523; Manufacturer: Diodes Inc; Manufacturer Part Number: SDMP0340LCT-7-F; Voltage - Forward (Vf) (Max) @ If: 370mV @ 1mA; Current - Reverse Leakage @ Vr: 1µA @ 10V; Current - Average Rectified (Io) (per Diode): 30mA (DC); Speed: Small Signal =< 200mA (Io), Any Speed; Diode Configuration: 1 Pair Common Cathode; Supplier 1: Digi-Key; Supplier Part Number 1: SDMP0340LCT-FDICT-ND; RoHS: RoHS Compliant; Category: Discrete Semiconductor Products; Stock 1: 2679; Pricing 1: 1=0.56, 10=0.4, 100=0.24, 250=0.17, 500=0.136, 1000=0.104 (USD); Voltage - DC Reverse (Vr) (Max): 40V; Reverse Recovery Time (trr): -; Diode Type: Schottky; Mounting Type: Surface Mount; Package / Case: SOT-523; Packaging: Cut Tape (CT); Supplier Device Package: *; ComponentLink1URL: http://www.diodes.com/datasheets/ds30266.pdf; ComponentLink1Description: http://www.diodes.com/datasheets/ds30266.pdf
footprint SOT50P160X80-3N (SOT23, 3-Leads, Body 1.7x1.8mm (max), Pitch 0.50mm, IPC Medium Density)
pins: 1, 2, 3

## SML-LX0404SIUPGUSB
designator RGB?
LED Low-Power Tri-Color Blue/Green/Red 465nm/518nm/632nm 2.7V/2.75V/1.95V 4-Pin SMD T/R; Manufacturer: Lumex; Lens Color: Colorless; Lens Style: Square,Clear,Rectangular; Viewing Angle: 120°; Forward Current: 2mA; Luminous Intensity: 20mcd; Forward Voltage: 2.73V; Lens Transparency: Clear; Number of LEDs: 3; Wavelength: 465nm; Power Rating: 30mW; Reverse Voltage: 5V; Supplier: Mouser; Supplier Part Number: 696-LX0404SIUPGUSB; Manufacturer Part Number: SML-LX0404SIUPGUSB; RoHS: Yes; Category: LEDs; Stock: 113976; Pricing: 1=0.94, 10=0.633, 50=0.633, 100=0.518, 1000=0.444, 10000=0.371 (USD); Mounting Technology: Surface Mount; Case/Package: 0404; Color: Blue,Green,Red; Case Code (Metric): 1010; Case Code (Imperial): 0404; Min Operating Temperature: -40°C; Max Operating Temperature: 85°C; Packaging: Tape and Reel; Package Quantity: 2000; Test Current: 2mA; Series: -; Moisture Sensitivity Level: 4; Length: 1mm; Width: 1mm; Height: 0.3mm; Reach SVHC Compliant: No; Lead Free: Lead Free; RoHS Compliant: Yes; ComponentLink1URL: https://datasheet.ciiva.com/1246/1423960-1246392.pdf?src-supplier=Element14; ComponentLink1Description: https://datasheet.ciiva.com/1246/1423960-1246392.pdf?src-supplier=Element14; ComponentLink2URL: https://datasheet.ciiva.com/1333/lumex-quasarbrite-0404smdrgb-productbrochure-1333009.pdf?src-supplier=Newark; ComponentLink2Description: https://datasheet.ciiva.com/1333/lumex-quasarbrite-0404smdrgb-productbrochure-1333009.pdf?src-supplier=Newark; ComponentLink3URL: https://datasheet.ciiva.com/2118/sml-lx0404siupgusb-2118652.pdf?src-supplier=Digikey; ComponentLink3Description: https://datasheet.ciiva.com/2118/sml-lx0404siupgusb-2118652.pdf?src-supplier=Digikey; ComponentLink4URL: https://datasheet.ciiva.com/4689/sml-lx0404siupgusb-202559-4689572.pdf?src-supplier=Mouser; ComponentLink4Description: https://datasheet.ciiva.com/4689/sml-lx0404siupgusb-202559-4689572.pdf?src-supplier=Mouser; ComponentLink5URL: https://datasheet.ciiva.com/16199/sml-lx0404siupgusb-16199820.pdf?src-supplier=Future+Electronics; ComponentLink5Description: https://datasheet.ciiva.com/16199/sml-lx0404siupgusb-16199820.pdf?src-supplier=Future+Electronics; ComponentLink6URL: https://datasheet.ciiva.com/1246/1484526-1246779.pdf?src-supplier=Element14; ComponentLink6Description: https://datasheet.ciiva.com/1246/1484526-1246779.pdf?src-supplier=Element14; ComponentLink7URL: https://datasheet.ciiva.com/2118/sml-lx0404siupgusb-2118653.pdf?src-supplier=Digikey; ComponentLink7Description: https://datasheet.ciiva.com/2118/sml-lx0404siupgusb-2118653.pdf?src-supplier=Digikey; ComponentLink8URL: https://datasheet.ciiva.com/2118/sml-lx0404siupgusb-2118654.pdf?src-supplier=Digikey; ComponentLink8Description: https://datasheet.ciiva.com/2118/sml-lx0404siupgusb-2118654.pdf?src-supplier=Digikey; ComponentLink9URL: https://datasheet.ciiva.com/14604/70127422-14604949.pdf?src-supplier=Allied+Electronics; ComponentLink9Description: https://datasheet.ciiva.com/14604/70127422-14604949.pdf?src-supplier=Allied+Electronics
footprint SML-LX0404SIUPGUSB
pins: 1 A, 2 K, 3 K, 4 K

## SML-P24MUWT86R
designator LED?  (value not drawn)
LED GREEN/RED DIFFUSED 0404 SMD; Manufacturer: Rohm Semiconductor; Color: Green, Red; Lens Color: White; Millicandela Rating: 21mcd Green, 52mcd Red; Lens Style/Size: Rectangle with Flat Top, 1.00mm x 0.60mm; Voltage - Forward (Vf) (Typ): 2.2V Green, 2.1V Red; Current - Test: 20mA Green, 20mA Red; Wavelength - Dominant: 572nm Green, 620nm Red; Supplier 1: Digi-Key; Manufacturer Part Number: SML-P24MUWT86R; RoHS: RoHS Compliant; Category: Optoelectronics; Stock 1: 2000; Pricing 1: 1=0.46, 10=0.359, 25=0.2928, 100=0.2328, 250=0.19952, 500=0.17292, 1000=0.13302, 2500=0.11972 (GBP); Packaging: Digi-Reel®; Part Status: Active; Lens Transparency: Diffused; Viewing Angle: -; Mounting Type: Surface Mount; Wavelength - Peak: -; Features: -; Package / Case: 0404 (1010 Metric); Supplier Device Package: 0404 (1010 Metric); Size / Dimension: 1.00mm L x 1.00mm W; Height (Max): 0.25mm; ComponentLink1URL: http://rohmfs.rohm.com/en/products/databook/datasheet/opto/led/chip_multi/sml-p24muw.pdf; ComponentLink1Description: http://rohmfs.rohm.com/en/products/databook/datasheet/opto/led/chip_multi/sml-p24muw.pdf; Supplier Part Number 1: 846-1185-6-ND
footprint DFN65P100X26-4N (DFN, 4-Leads, Body 1.00x1.00mm, Pitch 0.65mm, IPC Medium Density)
part A pins: 2 A, 3 K
part B pins: 1 A, 4 K

## SZMG2040MUTAG
designator TVS?
ESD Protection Diode, Low Capacitance, High Speed Video Interface; Manufacturer: ON Semiconductor; Direction: Unidirectional; Value: 0.42pF; Number of Unidirectional Channels: 14; Reverse Standoff Voltage: 5V; Min Breakdown Voltage: 5.5V; Clamping Voltage: 10V; Power Line Protection: No; Leakage Current: 1uA; Peak Pulse Current: 1A; Diode Type: ZENER; Supplier: Avnet; Supplier Part Number: SZMG2040MUTAG; Manufacturer Part Number: SZMG2040MUTAG; RoHS: Yes; Category: ESD and Circuit Protection ICs; Stock: 24000; Pricing: 3000=0.33502, 6000=0.32789, 12000=0.32076, 18000=0.31363, 24000=0.3065 (USD); Mounting Technology: Surface Mount; Pins: 18; Min Operating Temperature: -55°C; Max Operating Temperature: 125°C; Packaging: Tape and Reel; Series: Automotive, AEC-Q101; Working Voltage: 5V; Length: 5.5mm; Depth: 1.5mm; Radiation Hardening: No; Lead Free: Lead Free; RoHS Compliant: Yes; ComponentLink1URL: https://datasheet.ciiva.com/29883/mg2040-d-29883830.pdf?src-supplier=Avnet; ComponentLink1Description: https://datasheet.ciiva.com/29883/mg2040-d-29883830.pdf?src-supplier=Avnet; Supplier 1: Avnet; Supplier Part Number 1: SZMG2040MUTAG
footprint SZMG2040MUTAG
pins: 1, 2, 3, 4, 5, 6, 7, 8, 9, 10, 11, 12, 13, 14, 15, 16 26, 17, 18, 19, 20, 21

## SZMM5Z12VT1G
designator TVS?
500 mW Standard Tolerance Zener Diode Voltage Regulators 12 V (Automotive); Manufacturer: ON Semiconductor; Tolerance: 5%; Max Power Dissipation: 500mW; Zener Voltage: 12V; Impedance: 25R; Max Reverse Leakage Current: 100nA; Supplier: Digikey; Supplier Part Number: SZMM5Z12VT1GOSDKR-ND; Manufacturer Part Number: SZMM5Z12VT1G; RoHS: Yes; Category: Zener Diodes; Stock: 27898; Pricing: 1=0.41, 10=0.29, 100=0.1464, 500=0.12978, 1000=0.101 (USD); Case/Package: SOD-523-2; Pins: 2; Min Operating Temperature: -65°C; Max Operating Temperature: 150°C; Packaging: Tape and Reel; Series: Automotive, AEC-Q101; Package Quantity: 3000; Voltage Tolerance: 5%; Radiation Hardening: No; Lead Free: Lead Free; RoHS Compliant: Yes; ComponentLink1URL: https://datasheet.ciiva.com/10638/mm5z2v4t1-d-10638092.pdf?src-supplier=Avnet; ComponentLink1Description: https://datasheet.ciiva.com/10638/mm5z2v4t1-d-10638092.pdf?src-supplier=Avnet; Supplier 1: Digikey; Supplier Part Number 1: SZMM5Z12VT1GOSDKR-ND; Supplier 2: Mouser; Supplier Part Number 2: 863-SZMM5Z12VT1G
footprint SZMG2040MUTAG
pins: 1, 2, 3, 4, 5, 6, 7, 8, 9, 10, 11, 12, 13, 14, 15, 16 26, 17, 18, 19, 20, 21

## TAJB476M010TNJ
designator C?, comment 47 uF
Tantalum Capacitors - Solid SMD 10V 47uF 20% 1210 ESR= 1 Ohms; Manufacturer: Kyocera AVX; Manufacturer Part Number: TAJB476M010TNJ; Value: 47 uF; Pricing 1: 1=0.17, 10=0.17, 50=0.147, 100=0.133, 1000=0.096, 10000=0.084 (USD); Stock 1: 7811; Supplier 1: Mouser; Supplier Part Number 1: 581-TAJB476M010TNJ
footprint CAPCP3528X21N (Chip Capacitor, 2-Leads, Body 3.50x2.85mm, IPC Medium Density)
pins: 1, 2

## TL3315NF100Q
designator PB?  (value not drawn)
SWITCH TACTILE SPST-NO 0.05A 15V; Manufacturer: E-Switch; Mechanical Life: 1000000Cycles; Operating Force: 100gf; Current Rating: 50mA; Throw Configuration: SPST; Contact Resistance: 200mR; Illumination Type: Non-Illuminated; Switch Travel: 0.2mm; Switch Function: Off-Mom; Actuator Length: 0mm; Supplier 1: Digi-Key; Supplier Part Number 1: EG4620CT-ND; Manufacturer Part Number: TL3315NF100Q; Stock 1: 923314; Pricing 1: 1=0.18, 10=0.179, 25=0.1724, 50=0.1664, 100=0.1571, 250=0.14784, 500=0.14168, 1000=0.1078 (USD); Mount: Surface Mount; Case/Package: SMD/SMT; Colour: Yellow; Contact Plating: Silver; Contact Material: Silver; Min Operating Temperature: -20°C; Max Operating Temperature: 70°C; Packaging: Tape and Reel; Voltage Rating (DC): 15V; Package Quantity: 1; Max Voltage Rating (DC): 15V; Termination: Gull Wing; Electrical Life: 1000000Cycles; Orientation: Straight; Lead Free: Lead Free; ComponentLink1URL: https://datasheet.ciiva.com/2900/p010336b-2900756.pdf; ComponentLink1Description: https://datasheet.ciiva.com/2900/p010336b-2900756.pdf; ComponentLink2URL: https://datasheet.ciiva.com/5284/tl3315-7499-5284548.pdf; ComponentLink2Description: https://datasheet.ciiva.com/5284/tl3315-7499-5284548.pdf; ComponentLink3URL: https://datasheet.ciiva.com/2900/tl3315-2900757.pdf; ComponentLink3Description: https://datasheet.ciiva.com/2900/tl3315-2900757.pdf; ComponentLink4URL: https://datasheet.ciiva.com/2900/tl3315-2900758.pdf; ComponentLink4Description: https://datasheet.ciiva.com/2900/tl3315-2900758.pdf; ComponentLink5URL: https://datasheet.ciiva.com/16156/tl3315-16156332.pdf; ComponentLink5Description: https://datasheet.ciiva.com/16156/tl3315-16156332.pdf
footprint TL3315NF100Q
pins: 1, 2

## TPD1E05U06DPYR
designator U?  (value not drawn)
TVS DIODE 5.5VWM 14VC 2X1SON; Manufacturer: Texas Instruments; Bidirectional Channels: 1; Voltage - Reverse Standoff (Typ): 5.5V (Max); Voltage - Breakdown (Min): 6V; Voltage - Clamping (Max) @ Ipp: 14V; Current - Peak Pulse (10/1000µs): 2.5A (8/20µs); Power - Peak Pulse: 40W; Power Line Protection: Yes; Supplier 1: Digi-Key; Manufacturer Part Number: TPD1E05U06DPYR; RoHS: RoHS Compliant; Category: Circuit Protection; Stock 1: 61738; Pricing 1: 1=0.36, 10=0.268, 100=0.1514, 500=0.10042, 1000=0.07701 (GBP); Packaging: Digi-Reel®; Part Status: Active; Type: Steering (Rail to Rail); Unidirectional Channels: -; Applications: HDMI; Capacitance @ Frequency: -; Operating Temperature: -40°C ~ 125°C (TA); Mounting Type: Surface Mount; Package / Case: 2-XDFN; Supplier Device Package: 2-X1SON (1x.60); ComponentLink1URL: http://www.ti.com/lit/ds/symlink/tpd1e05u06.pdf; ComponentLink1Description: http://www.ti.com/lit/ds/symlink/tpd1e05u06.pdf; Supplier Part Number 1: 296-39341-6-ND
footprint SON50P100X45-2N (SON, 2-Leads, Body 0.60x1.00mm, Pitch 0.50mm, IPC Medium Density)
pins: 1, 2

## TPD4E02B04DQAR
designator TVS?
Quad 0.25-pF, ±3.6-V, ±12-kV ESD protection diode for USB 3.0, HDMI 2.0 & High Speed Signals; Manufacturer: Texas Instruments; Number of Bidirectional Channels: 4; Reverse Standoff Voltage: 3.6V; Min Breakdown Voltage: 5.5V; Peak Pulse Power: 17W; Power Line Protection: No; Peak Pulse Current: 5A; Interface: USB,HDMI; Diode Type: ZENER; Supplier: Mouser; Supplier Part Number: 595-TPD4E02B04DQAR; Manufacturer Part Number: TPD4E02B04DQAR; RoHS: Yes; Category: Integrated Circuits (ICs); Stock: 105735; Pricing: 1=0,58, 10=0,497, 50=0,497, 100=0,372, 1000=0,237, 10000=0,195 (USD); Mounting Technology: Surface Mount; Pins: 10; Min Operating Temperature: -40°C; Max Operating Temperature: 125°C; Packaging: Cut Tape; Operating Supply Voltage: 3.6V; Number of Channels: 4; Series: -; Reach SVHC Compliant: No; Lead Free: Lead Free; RoHS Compliant: Yes; ComponentLink1URL: http://www.ti.com/lit/ds/symlink/tpd4e02b04.pdf?src-supplier=Farnell; ComponentLink1Description: http://www.ti.com/lit/ds/symlink/tpd4e02b04.pdf?src-supplier=Farnell; ComponentLink2URL: http://www.ti.com/general/docs/lit/getliterature.tsp?genericPartNumber=TPD4E02B04&amp;&amp;fileType=pdf&src-supplier=Element14; ComponentLink2Description: http://www.ti.com/general/docs/lit/getliterature.tsp?genericPartNumber=TPD4E02B04&amp;&amp;fileType=pdf&src-supplier=Element14; ComponentLink3URL: http://www.ti.com/lit/ds/symlink/tpd4e02b04.pdf?src-supplier=Digi-Key; ComponentLink3Description: http://www.ti.com/lit/ds/symlink/tpd4e02b04.pdf?src-supplier=Digi-Key; ComponentLink4URL: http://www.ti.com/lit/ds/symlink/tpd4e02b04.pdf?src-supplier=Newark; ComponentLink4Description: http://www.ti.com/lit/ds/symlink/tpd4e02b04.pdf?src-supplier=Newark; Supplier 1: Mouser; Supplier Part Number 1: 595-TPD4E02B04DQAR
footprint FP-DQA0010A-MFG
pins: 1 IO1 (io), 2 IO2 (io), 3 GND (power), 4 IO3 (io), 5 IO4 (io), 6 NC, 7 NC, 8 GND (power), 9 NC, 10 NC

## TPD4E05U06DQAR
designator TVS?
Quad 0.5-pF, 5.5-V, ±12-kV ESD protection diode for USB, HDMI & High Speed Interfaces; Manufacturer: Texas Instruments; Direction: Unidirectional; Working Voltage: 5.5V; Min Breakdown Voltage: 6V; Clamping Voltage: 14V; Peak Pulse Power: 40W; Power Line Protection: Yes; Number of Channels: 4; Leakage Current: 10nA; Peak Pulse Current: 2.5A; Interface: LVDS,USB,Ethernet,HDMI,PCIe,SATA; Supplier: Mouser; Supplier Part Number: 595-TPD4E05U06DQAR; Manufacturer Part Number: TPD4E05U06DQAR; RoHS: Yes; Category: Integrated Circuits (ICs); Stock: 44444; Pricing: 1=0,51, 10=0,432, 50=0,432, 100=0,322, 1000=0,247, 10000=0,241 (USD); Mounting Technology: Surface Mount; Case/Package: SON; Pins: 10; Min Operating Temperature: -40°C; Max Operating Temperature: 125°C; Packaging: Tape and Reel; Package Quantity: 3000; Polarity: Unidirectional; Reverse Standoff Voltage: 5.5V; Breakdown Voltage: 6V; Max Power Dissipation: 40W; Termination: SMD/SMT; Operating Supply Voltage: 5.5V; Series: -; Number of Unidirectional Channels: 4; Length: 2.6mm; Depth: 1.1mm; Radiation Hardening: No; Reach SVHC Compliant: No; Lead Free: Lead Free; RoHS Compliant: Yes; ComponentLink1URL: https://datasheet.ciiva.com/15063/tpd4e05u06-15063653.pdf?src-supplier=Digi-Key; ComponentLink1Description: https://datasheet.ciiva.com/15063/tpd4e05u06-15063653.pdf?src-supplier=Digi-Key; ComponentLink2URL: https://datasheet.ciiva.com/24119/slvsbo7f-316827-24119436.pdf?src-supplier=Mouser; ComponentLink2Description: https://datasheet.ciiva.com/24119/slvsbo7f-316827-24119436.pdf?src-supplier=Mouser; ComponentLink3URL: https://datasheet.ciiva.com/26918/getdatasheetpartid-716763-26918024.pdf?src-supplier=Verical; ComponentLink3Description: https://datasheet.ciiva.com/26918/getdatasheetpartid-716763-26918024.pdf?src-supplier=Verical; ComponentLink4URL: https://datasheet.ciiva.com/15063/tpd4e05u06-15063654.pdf?src-supplier=Digi-Key; ComponentLink4Description: https://datasheet.ciiva.com/15063/tpd4e05u06-15063654.pdf?src-supplier=Digi-Key; ComponentLink5URL: https://datasheet.ciiva.com/15063/tpd4e05u06-15063655.pdf?src-supplier=Digi-Key; ComponentLink5Description: https://datasheet.ciiva.com/15063/tpd4e05u06-15063655.pdf?src-supplier=Digi-Key; ComponentLink6URL: https://datasheet.ciiva.com/29883/tpd4e05u06-29883798.pdf?src-supplier=Avnet; ComponentLink6Description: https://datasheet.ciiva.com/29883/tpd4e05u06-29883798.pdf?src-supplier=Avnet; Supplier 1: Mouser; Supplier Part Number 1: 595-TPD4E05U06DQAR
footprint FP-DQA0010A-MFG
pins: 1 IO1 (io), 2 IO2 (io), 3 GND (power), 4 IO3 (io), 5 IO4 (io), 6 NC, 7 NC, 8 GND (power), 9 NC, 10 NC

## UAD8C18L01
designator TVS?  (value not drawn)
ESD Suppressor TVS Array Dual Bi-Directional 18V 15kV Air/8kV Contact 2-Pin SOD-882 T/R; Manufacturer: Yageo; Supplier: Digikey; Supplier Part Number: 13-UAD8C18L01DKR-ND; Manufacturer Part Number: UAD8C18L01; RoHS: Yes; Category: TVS Diodes; Stock: 9160; Pricing: 1=0.28, 10=0.195, 100=0.0952, 500=0.07944, 1000=0.05519, 2000=0.04784, 5000=0.04437 (USD); RoHS Compliant: Yes; Supplier 1: Digikey; Supplier Part Number 1: 13-UAD8C18L01CT-ND
footprint DFN85P100X55-2N (DFN, 2-Leads, Body 0.60x1.00mm, Pitch 0.85mm, IPC Medium Density)
pins: 1, 2

## UZR0G221MCL1GB
designator C?, comment 220 uF
CAP ALUM 220UF 20% 4V SMD; Manufacturer: Nichicon; Manufacturer Part Number: UZR0G221MCL1GB; Capacitance: 220µF; Lifetime @ Temp.: 1000 Hrs @ 85°C; Ripple Current: 96mA; Surface Mount Land Size: 0.260" L x 0.260" W (6.60mm x 6.60mm); Supplier 1: Digi-Key; Supplier Part Number 1: 493-10098-6-ND; RoHS: RoHS Compliant; Category: Capacitors; Stock 1: 1197; Pricing 1: 1=0.57, 10=0.402, 25=0.3424, 50=0.3034, 100=0.2644, 250=0.2252, 500=0.19582 (EUR); Packaging: Digi-Reel®; Part Status: Active; Tolerance: ±20%; Voltage Rating: 4V; ESR (Equivalent Series Resistance): -; Operating Temperature: -40°C ~ 85°C; Polarization: -; Applications: General Purpose; Impedance: -; Lead Spacing: -; Size / Dimension: 0.248" Dia (6.30mm); Height - Seated (Max): 0.156" (3.95mm); Mounting Type: Surface Mount; Package / Case: Radial, Can - SMD; ComponentLink1URL: http://nichicon-us.com/english/products/pdfs/e-uzr.pdf; ComponentLink1Description: http://nichicon-us.com/english/products/pdfs/e-uzr.pdf; Value: 220 uF
signal-integrity model Model Name (Model Description)
footprint CAPAE5854X40M (Aluminum Electrolytic Capacitor, Body 5.45x5.45x3.95mm, IPC Low Density)
pins: 1, 2